# Altium schematic symbol library Embedded_custom.SchLib: 2 symbols
Pins are listed as number, name and electrical type; pins without a type are passive.

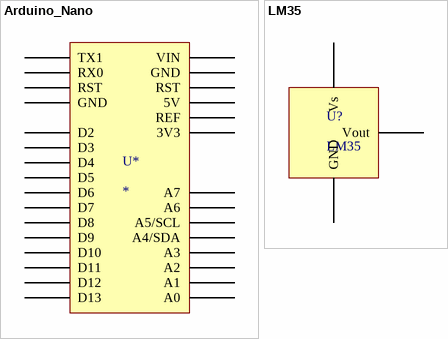
[diagram p0: symbols Arduino_Nano to LM35]

## Arduino_Nano
designator U*
footprint DIP30
pins: 1 TX1, 2 RX0, 3 RST, 4 GND (power), 5 D2, 6 D3, 7 D4, 8 D5, 9 D6, 10 D7, 11 D8, 12 D9, 13 D10, 14 D11, 15 D12, 16 D13, 17 3V3 (power), 18 REF, 19 A0, 20 A1, 21 A2, 22 A3, 23 A4/SDA, 24 A5/SCL, 25 A6, 26 A7, 27 5V (power), 28 RST, 29 GND (power), 30 VIN (power)

## LM35
designator U?
footprint TO-92 (TO, Flat Index; 3 In-Line, Axial Leads; Body Dia. 4.6mm; Leads 0.41 x 0.39 mm (max))
footprint HDR1X3 (Footprint not found)
pins: 1 Vs (power), 2 Vout, 3 GND (power)